# EAGLE library part MOD25MM (library zkseagle)
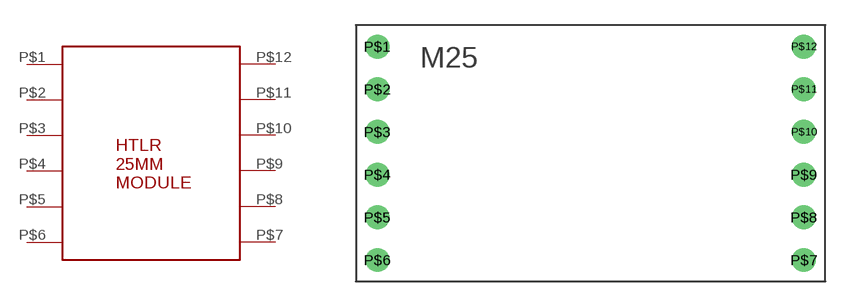
[diagram p2: symbol with the pads of M25MM_P; footprint M25MM_P]

Designator prefix -

## MOD25MM  [M25MM_P]
P$1  P$1
P$2  P$2
P$3  P$3
P$4  P$4
P$5  P$5
P$6  P$6
P$7  P$7
P$8  P$8
P$9  P$9
P$10  P$10
P$11  P$11
P$12  P$12

## Footprint M25MM_P (pad centres in mm)
drill 0.8 pad 1.422: P$1 0,12.7; P$2 0,10.16; P$3 0,7.62; P$4 0,5.08; P$5 0,2.54; P$6 0,0; P$7 25.4,0; P$8 25.4,2.54; P$9 25.4,5.08; P$10 25.4,7.62; P$11 25.4,10.16; P$12 25.4,12.7